# Altium footprint library ALTAIR_PD_USB.PcbLib: 2 footprints
Each footprint in its own frame and in the unit in brackets; x right, y up, seen from the top. Pads: shape width x height; smd on the part's side, far side on the other; paste and mask are expansions set on the pad; w line width, h text height; cw(c..) or ccw(c..) is an arc to the next point about the centre after c.
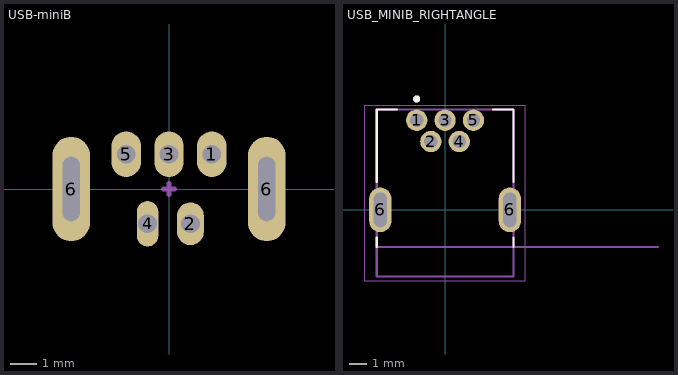
[diagram p0: the footprints below, top view; thin cyan lines are the x and y axes]

## USB-miniB [mm]
pads (7):
  oval 1.1x1.7 hole 0.7: 1(1.6,1.3) 3(0,1.3) 5(-1.6,1.3)
  oval 1x1.6 hole 0.7: 2(0.8,-1.3)
  oval 0.8x1.7 hole 0.7: 4(-0.8,-1.3)
  oval 1.4x3.9 hole 0.65 slot 2.4 at 90 deg: 6(-3.65,0) 6(3.65,0)
Top Courtyard:
  lines w0.203: -0.2,0 0.2,0 ; 0,-0.2 0,0.2
3D body "5000750517.stp": height 7.9, standoff -1.9, extent -4.15,-2.4 4.15,2.3

## USB_MINIB_RIGHTANGLE [mm]
height 3.9
pads (7):
  round 1.2 hole 0.75: 1(-1.6,5.05) 2(-0.8,3.85) 3(0,5.05) 4(0.8,3.85) 5(1.6,5.05)
  oval 1.258x2.516 hole 0.75 slot 1.95 at 90 deg: 6(-3.65,0) 6(3.65,0)
Top Overlay:
  circle w0.2: c-1.6,6.25 r0.1
  lines w0.127: -3.85,-2.1 -3.85,-1.578 ; -3.85,1.578 -3.85,5.65 -2.72,5.65 ; 2.72,5.65 3.85,5.65 3.85,1.578 ; 3.85,-2.1 3.85,-1.578
Mechanical 13:
  circle w0.2: c-1.6,6.25 r0.1
  lines w0.127: 12,-2.1 -3.85,-2.1 ; -3.85,-2.1 -3.85,5.65 3.85,5.65 3.85,-3.75 -3.85,-3.75 -3.85,-2.1
  text "PCB EDGE" at 4.75,-1.75 h1.02
Mechanical 15:
  lines w0.05: -4.529,-4 -4.529,5.9 4.529,5.9 4.529,-4 -4.529,-4
3D body "step_temp.STEP": height 3.91, standoff -2.84, extent -3.97,-3.75 3.93,5.65